# Altium schematic symbol library SchLib.SchLib: 3 symbols
Pins are listed as number, name and electrical type; pins without a type are passive.

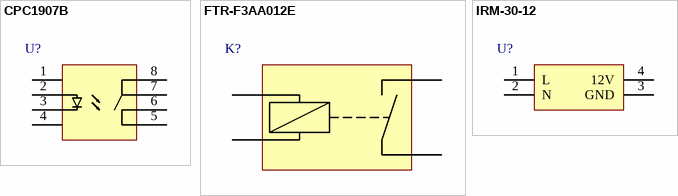
[diagram p0: symbols CPC1907B to IRM-30-12]

## CPC1907B
designator U?  (value not drawn)
footprint CPC1907B
pins: 1, 2, 3, 4, 5, 6, 7, 8

## FTR-F3AA012E
designator K?  (value not drawn)
footprint FTR-F3AA012E
pins: 1, 2, 3, 4

## IRM-30-12
designator U?  (value not drawn)
footprint IRM-30-12
pins: 1 L, 2 N, 3 GND, 4 12V